# EAGLE library part ESP-WROOM-02 (library esp-wroom-02)
WiFi module - ESP-WROOM-02
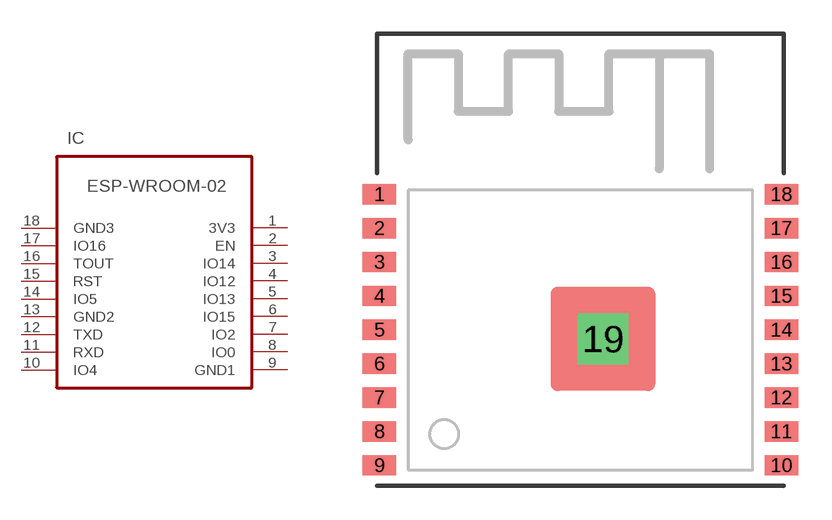
[diagram p0: symbol with the pads of ESP-WROOM-02; footprint ESP-WROOM-02]

Designator prefix IC

## ESP-WROOM-02  [ESP-WROOM-02]
1  3V3  pwr
2  EN
3  IO14
4  IO12
5  IO13
6  IO15
7  IO2
8  IO0
9  GND1  pwr
10  IO4
11  RXD
12  TXD
13  GND2  pwr
14  IO5  oc
15  RST
16  TOUT
17  IO16
18  GND3  pwr
19  GND0  pwr

## Footprint ESP-WROOM-02 (pad centres in mm)
smd 1.485 x 0.9: 1 -8.893,4.9; 2 -8.893,3.4; 3 -8.893,1.9; 4 -8.893,0.4; 5 -8.893,-1.1; 6 -8.893,-2.6; 7 -8.893,-4.1; 8 -8.893,-5.6; 9 -8.893,-7.1; 10 8.893,-7.1; 11 8.893,-5.6; 12 8.893,-4.1; 13 8.893,-2.6; 14 8.893,-1.1; 15 8.893,0.4; 16 8.893,1.9; 17 8.893,3.4; 18 8.893,4.9
drill 1.5 pad 2 square: 19 1,-1.5